# EAGLE library part MCP41HV51 (library Personal)
MCP41HV51 <http://ww1.microchip.com/downloads/en/DeviceDoc/20005207B.pdf> - 7/8-Bit Single, +36 V (±18V) Digital POT with SPI Serial Interface and Volatile Memory
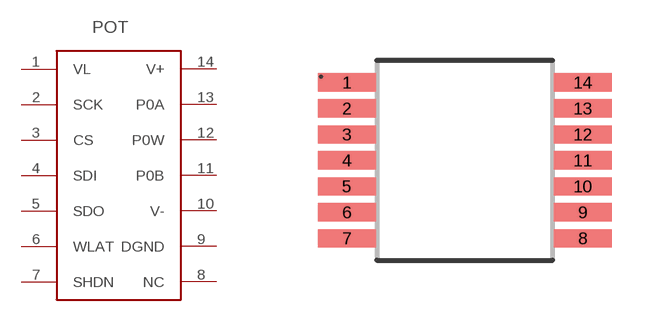
[diagram p0: symbol with the pads of MCP41HV51; footprint MCP41HV51]

Designator prefix POT

## MCP41HV51  [MCP41HV51]
1  VL
2  SCK
3  CS
4  SDI
5  SDO
6  WLAT
7  SHDN
8  NC  nc
9  DGND
10  V-
11  P0B
12  P0W
13  P0A
14  V+

## Footprint MCP41HV51 (pad centres in mm)
smd 1.45 x 0.45: 1 0,0; 2 0,-0.65; 3 0,-1.3; 4 0,-1.95; 5 0,-2.6; 6 0,-3.25; 7 0,-3.9; 8 5.9,-3.9; 9 5.9,-3.25; 10 5.9,-2.6; 11 5.9,-1.95; 12 5.9,-1.3; 13 5.9,-0.65; 14 5.9,0